# EAGLE library part OPA2188AIDGKR (library strasys_standard)
OP AMP, GP, RR, 2MHZ, 36-V, Zero-Drift,8MSOP
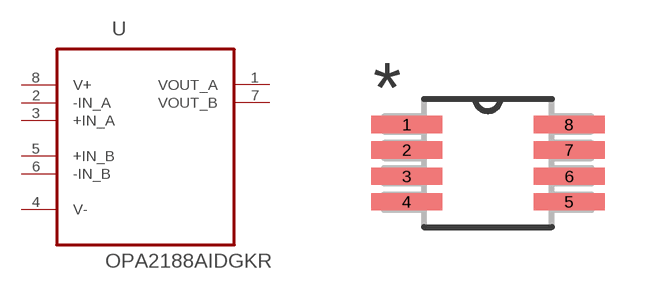
[diagram p7: symbol with the pads of SOP65P490X110-8N; footprint SOP65P490X110-8N]

Designator prefix U

## OPA2188AIDGKR (MPN: OPA2188AIDGKR; OC_FARNELL: 2057091; OC_NEWARK: 61T5955; PACKAGE: 8MSOP; SUPPLIER: TEXAS INSTRUMENTS)  [SOP65P490X110-8N]
1  VOUT_A  out
2  -IN_A  in
3  +IN_A  in
4  V-  pwr
5  +IN_B  in
6  -IN_B  in
7  VOUT_B  out
8  V+  pwr

## Footprint SOP65P490X110-8N (pad centres in mm)
smd 1.778 x 0.432: 1 -2.032,0.965; 2 -2.032,0.33; 3 -2.032,-0.33; 4 -2.032,-0.965; 5 2.032,-0.965; 6 2.032,-0.33; 7 2.032,0.33; 8 2.032,0.965